# Altium schematic symbol library CONN,Socket,2x3 Pin,2.00mm,Top,Thru.Schlib: 1 symbol
Pins are listed as number, name and electrical type; pins without a type are passive.

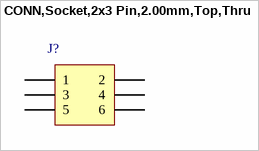
[diagram p0: symbol CONN,Socket,2x3 Pin,2.00mm,Top,Thru]

## CONN,Socket,2x3 Pin,2.00mm,Top,Thru
designator J?
pins: 1, 2, 3, 4, 5, 6